# Altium schematic symbol library TPS6303X.Schlib: 1 symbol
Pins are listed as number, name and electrical type; pins without a type are passive.

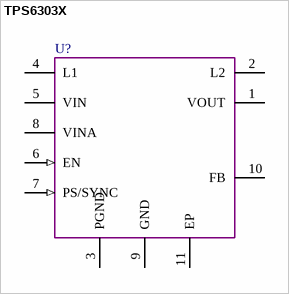
[diagram p0: symbol TPS6303X]

## TPS6303X
designator U?  (value not drawn)
High Efficiency Single Inductor Buck-Boost Converter With 1-A Switches
pins: 1 VOUT (power), 2 L2, 3 PGND (power), 4 L1, 5 VIN (power), 6 EN (in), 7 PS/SYNC (in), 8 VINA (power), 9 GND (power), 10 FB, 11 EP (power)